# EAGLE library part LT3042IMSE#TRPBF (library U-Analog-LT3042-ultralow-noise-ldo)
Ldo, Adj, 0.2a, 0v-15v, Msop-10
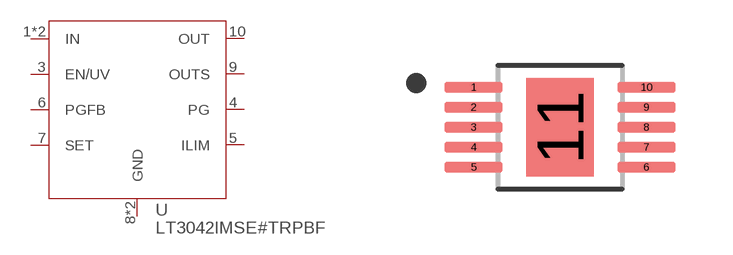
[diagram p0: symbol with the pads of SOP50P490X110-11N; footprint SOP50P490X110-11N]

Designator prefix U

## LT3042IMSE#TRPBF (DESCRIPTION: LDO Regulator Pos 0V to 15V 0.2A Automotive Medical 10-Pin MSOP EP T/R; DPN: LT3042IMSE#TRPBFCT-ND; MF: Analog Devices; MPN: LT3042IMSE#TRPBF; PACKAGE: MSOP -10 Analog Devices; PURCHASE-URL: https://pricing.snapeda.com/search/part/LT3042IMSE#TRPBF/?ref=eda)  [SOP50P490X110-11N]
1  IN  pwr
2  IN  pwr
3  EN/UV  in
4  PG  oc
5  ILIM  pas
6  PGFB  pas
7  SET  in
8  GND  pwr
9  OUTS  pwr
10  OUT  pwr
11  GND  pwr

## Footprint SOP50P490X110-11N (pad centres in mm)
smd 1.45 x 0.28: 1 -2.16,1; 2 -2.16,0.5; 3 -2.16,0; 4 -2.16,-0.5; 5 -2.16,-1; 6 2.16,-1; 7 2.16,-0.5; 8 2.16,0; 9 2.16,0.5; 10 2.16,1
smd 1.68 x 2.46: 11 0,0